# Altium schematic symbol library BCM857BS-7-F.SchLib: 1 symbol
Pins are listed as number, name and electrical type; pins without a type are passive.

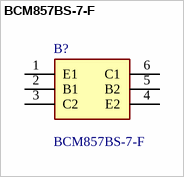
[diagram p0: symbol BCM857BS-7-F]

## BCM857BS-7-F
designator B?
Bipolar Transistors - BJT 45V Matched Pair PNP Bvceo -45V -100mA; Manufacturer_Name: Diodes Incorporated; Geometry.Height: 1.1mm; Mouser Part Number: 621-BCM857BS-7-F; Mouser Price/Stock: https://www.mouser.co.uk/ProductDetail/Diodes-Incorporated/BCM857BS-7-F?qs=60RJRzIpcl83Pda4UUWqGw%3D%3D; Manufacturer_Part_Number: BCM857BS-7-F; Datasheet Link: *
footprint SOT65P210X110-6N
pins: 1 E1, 2 B1, 3 C2, 4 E2, 5 B2, 6 C1